# EAGLE library part CC3100MOD (library lib_stankus)
CC3100MOD
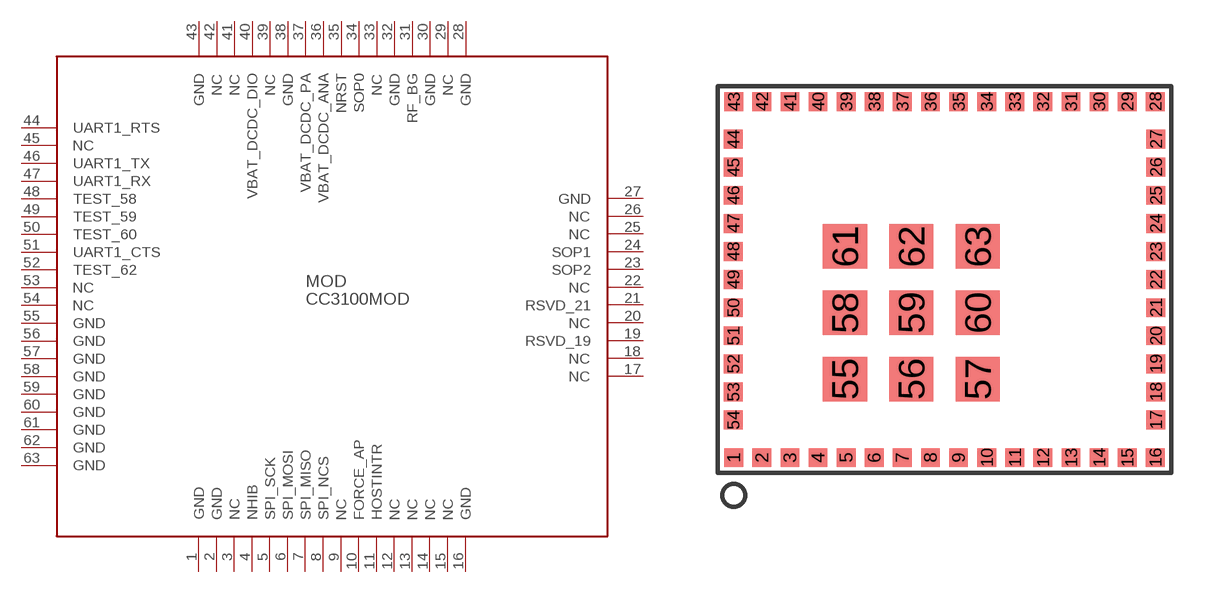
[diagram p98: symbol with the pads of CC3100MOD; footprint CC3100MOD]

Designator prefix MOD

## CC3100MOD  [CC3100MOD]
1  GND  pas
2  GND  pas
3  NC  nc
4  NHIB  pas
5  SPI_SCK  pas
6  SPI_MOSI  pas
7  SPI_MISO  pas
8  SPI_NCS  pas
9  NC  nc
10  FORCE_AP  pas
11  HOSTINTR  pas
12  NC  nc
13  NC  nc
14  NC  nc
15  NC  nc
16  GND  pas
17  NC  nc
18  NC  nc
19  RSVD_19  nc
20  NC  nc
21  RSVD_21  pas
22  NC  nc
23  SOP2  pas
24  SOP1  nc
25  NC  nc
26  NC  nc
27  GND  pas
28  GND  pas
29  NC  nc
30  GND  pas
31  RF_BG  pas
32  GND  pas
33  NC  nc
34  SOP0  nc
35  NRST  pas
36  VBAT_DCDC_ANA  pas
37  VBAT_DCDC_PA  pas
38  GND  pas
39  NC  nc
40  VBAT_DCDC_DIO  pas
41  NC  nc
42  NC  nc
43  GND  pas
44  UART1_RTS  pas
45  NC  nc
46  UART1_TX  pas
47  UART1_RX  pas
48  TEST_58  pas
49  TEST_59  pas
50  TEST_60  pas
51  UART1_CTS  pas
52  TEST_62  pas
53  NC  nc
54  NC  nc
55  GND  pas
56  GND  pas
57  GND  pas
58  GND  pas
59  GND  pas
60  GND  pas
61  GND  pas
62  GND  pas
63  GND  pas

## Footprint CC3100MOD (pad centres in mm)
CC3100MOD
smd 0.85 x 0.85: 1 -9.525,-8.05; 2 -8.255,-8.05; 3 -6.985,-8.05; 4 -5.715,-8.05; 5 -4.445,-8.05; 6 -3.175,-8.05; 7 -1.905,-8.05; 8 -0.635,-8.05; 9 0.635,-8.05; 10 1.905,-8.05; 11 3.175,-8.05; 12 4.445,-8.05; 13 5.715,-8.05; 14 6.985,-8.05; 15 8.255,-8.05; 16 9.525,-8.05; 17 9.55,-6.35; 18 9.55,-5.08; 19 9.55,-3.81; 20 9.55,-2.54; 21 9.55,-1.27; 22 9.55,0; 23 9.55,1.27; 24 9.55,2.54; 25 9.55,3.81; 26 9.55,5.08; 27 9.55,6.35; 28 9.525,8.05; 29 8.255,8.05; 30 6.985,8.05; 31 5.715,8.05; 32 4.445,8.05; 33 3.175,8.05; 34 1.905,8.05; 35 0.635,8.05; 36 -0.635,8.05; 37 -1.905,8.05; 38 -3.175,8.05; 39 -4.445,8.05; 40 -5.715,8.05; 41 -6.985,8.05; 42 -8.255,8.05; 43 -9.525,8.05; 44 -9.55,6.35; 45 -9.55,5.08; 46 -9.55,3.81; 47 -9.55,2.54; 48 -9.55,1.27; 49 -9.55,0; 50 -9.55,-1.27; 51 -9.55,-2.54; 52 -9.55,-3.81; 53 -9.55,-5.08; 54 -9.55,-6.35
smd 2 x 2: 55 -4.5,-4.5; 56 -1.5,-4.5; 57 1.5,-4.5; 58 -4.5,-1.5; 59 -1.5,-1.5; 60 1.5,-1.5; 61 -4.5,1.5; 62 -1.5,1.5; 63 1.5,1.5